# EAGLE library part TPS6217(5/7) (library PP_DigitalIC)
Manufacturer Part #: TPS62175 / TPS62177 Manufacturer: Texas Instruments Description: Voltage Regulators - Switching Regulators 28V 0.5A SD Cnvtr r
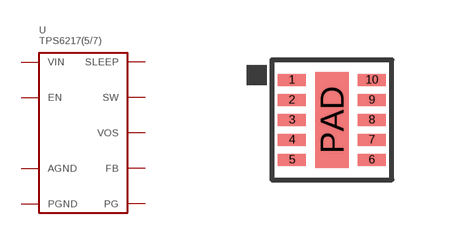
[diagram p3: symbol with the pads of TPS6217(5/7)_WSON-10; footprint TPS6217(5/7)_WSON-10]

Designator prefix U

## TPS6217(5/7)DQC  [TPS6217(5/7)_WSON-10]
1  PGND
2  VIN
3  EN
5  FB
6  AGND
7  PG
8  SLEEP
9  SW
10  VOS
PAD  AGND

## Footprint TPS6217(5/7)_WSON-10 (pad centres in mm)
smd 0.7 x 0.3: 1 -1,1; 2 -1,0.5; 3 -1,0; 4 -1,-0.5; 5 -1,-1; 6 1,-1; 7 1,-0.5; 8 1,0; 9 1,0.5; 10 1,1
smd 0.84 x 2.4: PAD 0,0